# Altium schematic symbol library CTRL Freaks Components.SchLib: 12 symbols
Pins are listed as number, name and electrical type; pins without a type are passive.

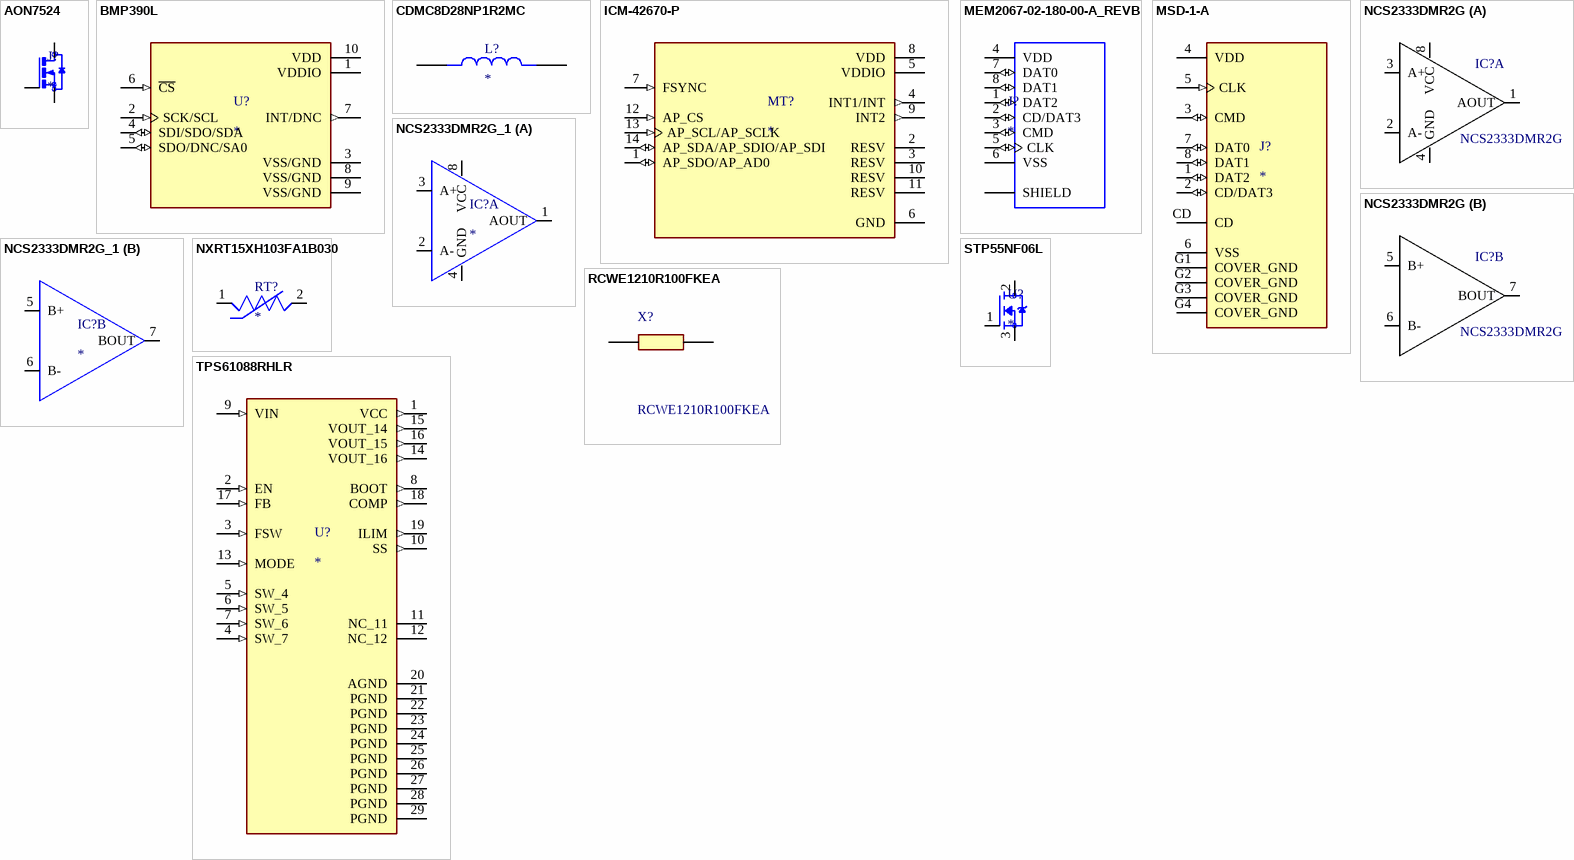
[diagram p0: symbols AON7524 to TPS61088RHLR]

## AON7524
designator J?
N-Channel 30 V 25A (Ta), 28A (Tc) 3.1W (Ta), 32W (Tc) Surface Mount 8-DFN-EP (3x3); MF: Alpha &; MP: AON7524; SnapEDA_Link: https://www.snapeda.com/parts/AON7524/Alpha/view-part/?ref=snap; Package: DFN-8 Alpha &amp;; Value: *; Check_prices: https://www.snapeda.com/parts/AON7524/Alpha/view-part/?ref=eda
footprint DFN3X3A-8LEP1
pins: P$1 S, P$2 S, P$3 S, P$4 G, P$5 D, P$6 D, P$7 D, P$8 D, P$9 D, P$10 D, P$11 D

## BMP390L
designator U?
Pressure Sensor 4.35PSI ~ 18.13PSI (30kPa ~ 125kPa) Absolute - - 10-WFLGA; MF: Bosch Sensortec; MP: BMP390L; SnapEDA_Link: https://www.snapeda.com/parts/BMP390L/Bosch+Sensortec/view-part/?ref=snap; Package: None; Value: *; Check_prices: https://www.snapeda.com/parts/BMP390L/Bosch+Sensortec/view-part/?ref=eda
footprint XDCR_BMP390L
pins: 1 VDDIO (power), 2 SCK/SCL (in), 3 VSS/GND (power), 4 SDI/SDO/SDA (io), 5 SDO/DNC/SA0 (io), 6 ~{CS} (in), 7 INT/DNC (out), 8 VSS/GND (power), 9 VSS/GND (power), 10 VDD (power)

## CDMC8D28NP1R2MC
designator L?
Inductor Power Shielded Wirewound 1.2uH 20% 1MHz 12.9A 0.007Ohm DCR T/R; MF: Sumida; MP: CDMC8D28NP1R2MC; SnapEDA_Link: https://www.snapeda.com/parts/CDMC8D28NP1R2MC/Sumida/view-part/?ref=snap; Package: None; Value: *; Check_prices: https://www.snapeda.com/parts/CDMC8D28NP1R2MC/Sumida/view-part/?ref=eda
footprint IND_CDMC8D28NP1R2MC
pins: 1, 2

## ICM-42670-P
designator MT?
MP: ICM-42670-P; Package: None; Price: None; Value: *; Availability: Unavailable
footprint XDCR_ICM-42670-P
pins: 1 AP_SDO/AP_AD0 (io), 2 RESV, 3 RESV, 4 INT1/INT (out), 5 VDDIO (power), 6 GND (power), 7 FSYNC (in), 8 VDD (power), 9 INT2 (out), 10 RESV, 11 RESV, 12 AP_CS (in), 13 AP_SCL/AP_SCLK (in), 14 AP_SDA/AP_SDIO/AP_SDI (io)

## MEM2067-02-180-00-A_REVB
designator J?
Micro SD Memory Card ConnectorSMT, Hinged, 1.80mm Profile; MP: MEM2067-02-180-00-A_REVB; Price: None; Value: *; Package: None; Availability: Unavailable
footprint GCT_MEM2067-02-180-00-A_REVB
pins: 1 DAT2 (io), 2 CD/DAT3 (io), 3 CMD (io), 4 VDD (power), 5 CLK (io), 6 VSS (power), 7 DAT0 (io), 8 DAT1 (io), 9 SHIELD, 10 SHIELD, 11 SHIELD, 12 SHIELD

## MSD-1-A
designator J?
Micro SD Card Connector, 9 Positions, Connector and Ejector, Push In, Auto Eject Out, Surface Mount, 1.8 mm Height Above Board, Gold Flash; MF: Same Sky; MP: MSD-1-A; SnapEDA_Link: https://www.snapeda.com/parts/MSD-1-A/Same+Sky/view-part/?ref=snap; Package: None; Value: *; Check_prices: https://www.snapeda.com/parts/MSD-1-A/Same+Sky/view-part/?ref=eda
footprint CUI_MSD-1-A
pins: 1 DAT2 (io), 2 CD/DAT3 (io), 3 CMD (io), 4 VDD (power), 5 CLK (in), 6 VSS (power), 7 DAT0 (io), 8 DAT1 (io), CD, G1 COVER_GND (power), G2 COVER_GND (power), G3 COVER_GND (power), G4 COVER_GND (power)

## NCS2333DMR2G
designator IC?
SnapEDA_Link: https://www.snapeda.com/parts/NCS2333DMR2G/Onsemi/view-part/?ref=snap; Check_prices: https://www.snapeda.com/parts/NCS2333DMR2G/Onsemi/view-part/?ref=eda; Value: *
footprint *MSOP8
part A pins: 1 AOUT (io), 2 A- (io), 3 A+ (io), 4 GND (io), 8 VCC (io)
part B pins: 5 B+ (io), 6 B- (io), 7 BOUT (io)

## NCS2333DMR2G_1
designator IC?
Precision Operational Amplifier, 30 ?ÂµV Offset, 0.07 ?ÂµV/?C, Low Power, Zero-Drift; MF: ON Semiconductor; MP: NCS2333DMR2G; SnapEDA_Link: https://www.snapeda.com/parts/NCS2333DMR2G/Onsemi/view-part/?ref=snap; Package: MICRO-8 ON Semiconductor; Value: *; Check_prices: https://www.snapeda.com/parts/NCS2333DMR2G/Onsemi/view-part/?ref=eda
footprint MSOP8
part A pins: 1 AOUT (io), 2 A- (io), 3 A+ (io), 4 GND (io), 8 VCC (io)
part B pins: 5 B+ (io), 6 B- (io), 7 BOUT (io)

## NXRT15XH103FA1B030
designator RT?
THERMISTOR NTC 10KOHM 3380K BEAD; MF: Murata; MP: NXRT15XH103FA1B030; Package: RADIAL-2 Murata; Price: None; Value: *; SnapEDA_Link: https://www.snapeda.com/parts/NXRT15XH103FA1B030/Murata/view-part/4970536/?ref=snap; Availability: Good; Purchase-URL: https://pricing.snapeda.com/search/part/NXRT15XH103FA1B030/?ref=eda
footprint THERM_NXRT15XH103FA1B030
pins: 1, 2

## RCWE1210R100FKEA
designator X?
Res Thick Film 1210 0.1 Ohm 1% 1W +/-100ppm/C Sulfur Resistant Pad SMD Automotive T/R; Manufacturer_Name: Vishay; Geometry.Height: 0.7mm; Mouser Part Number: 71-RCWE1210R100FKEA; Mouser Price/Stock: https://www.mouser.co.uk/ProductDetail/Vishay-Dale/RCWE1210R100FKEA?qs=ky7aQRddhuh3IQZv%2FTVUyQ%3D%3D; Manufacturer_Part_Number: RCWE1210R100FKEA; Datasheet Link: https://www.arrow.com/en/products/rcwe1210r100fkea/vishay?region=nac
footprint RESC3125X70N
pins: 1, 2

## STP55NF06L
designator U?
N-Channel 60V 55A (Tc) 95W (Tc) Through Hole TO-220AB; MF: STMicroelectronics; MP: STP55NF06L; SnapEDA_Link: https://www.snapeda.com/parts/STP55NF06L/STMicroelectronics/view-part/?ref=snap; Package: TO-220-3 STMicroelectronics; Value: *; Check_prices: https://www.snapeda.com/parts/STP55NF06L/STMicroelectronics/view-part/?ref=eda
footprint TO254P1040X460X1935-3
pins: 1 G, 2 D, 3 S

## TPS61088RHLR
designator U?
MP: TPS61088RHLR; Availability: Unavailable; Value: *; Package: None; Price: None
footprint IC_TPS61088RHLR
pins: 1 VCC (out), 2 EN (in), 3 FSW (in), 4 SW_7 (in), 5 SW_4 (in), 6 SW_5 (in), 7 SW_6 (in), 8 BOOT (out), 9 VIN (in), 10 SS (out), 11 NC_11, 12 NC_12, 13 MODE (in), 14 VOUT_16 (out), 15 VOUT_14 (out), 16 VOUT_15 (out), 17 FB (in), 18 COMP (out), 19 ILIM (out), 20 AGND (power), 21 PGND (power), 22 PGND (power), 23 PGND (power), 24 PGND (power), 25 PGND (power), 26 PGND (power), 27 PGND (power), 28 PGND (power), 29 PGND (power)